# Altium schematic symbol library Crystall_Oscillator.Schlib: 1 symbol
Pins are listed as number, name and electrical type; pins without a type are passive.

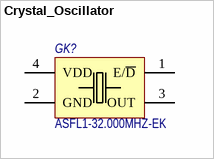
[diagram p0: symbol Crystal_Oscillator]

## Crystal_Oscillator
designator GK?, comment ASFL1-32.000MHZ-EK
Crystall oscillator, CMOS, 3.3V, SMD3025; Назначение: кварцевый генератор, XO SMD 3.3V 32.000MHZ 3.2X5MM; Потребление, Вт: 0,165; ComponentLink1Description: DataSheet; ComponentLink1URL: http://www.lit-phonon.ru/downloads/GK108-P.pdf; Наименование: ASFL1-32.000MHZ-EK
footprint SMD_7050_Crystal_Oscillator
pins: 1 E/~{D} "Enable/~Disable", 2 GND, 3 OUT "Frequency signal out", 4 VDD